# Altium integrated library Capacitor - Aluminium TH.IntLib: 4591 symbols (part 59 of 68)
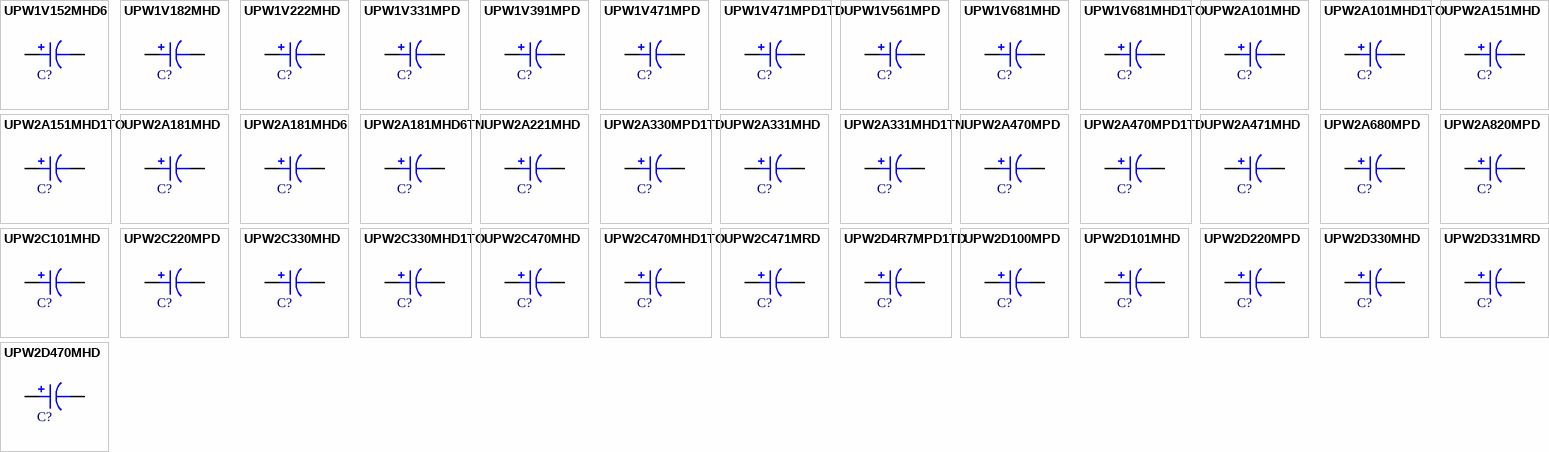
[diagram p172: symbols UPW1V152MHD6 to UPW2D470MHD]

## UPW2D330MHD
designator C?, comment 33uF  (value not drawn)
CAP ALUM 33UF 20% 200V RADIAL; Part Number: UPW2D330MHD; Manufacturer: Nichicon; TemperatureRange: -40C ~ 105C; Type: Polar; Ripple Current: 190mA @ 120Hz; Value: 33uF; PartId: 23553; Supplier 1: Digi-Key; Supplier Part Number 1: 493-2010-ND; ComponentLink1Description: Datasheet; ComponentLink1URL: http://nichicon-us.com/english/products/pdfs/e-upw.pdf; ComponentLink2Description: Digi-Key Listing; ComponentLink2URL: https://www.digikey.com/product-detail/en/nichicon/UPW2D330MHD/493-2010-ND/589751; Tolerance: 20%; Voltage: 200V; Price: 0.85; Device Package: Radial, Can, 12.5mm
footprint CAP AL TH D12.5 L5 H25
pins: 1, 2

## UPW2D331MRD
designator C?, comment 330uF  (value not drawn)
CAP ALUM 330UF 20% 200V RADIAL; Part Number: UPW2D331MRD; Manufacturer: Nichicon; TemperatureRange: -40C ~ 105C; Type: Polar; Ripple Current: 1.1A @ 120Hz; Value: 330uF; PartId: 27589; Supplier 1: Digi-Key; Supplier Part Number 1: 493-2015-ND; ComponentLink1Description: Datasheet; ComponentLink1URL: http://nichicon-us.com/english/products/pdfs/e-upw.pdf; ComponentLink2Description: Digi-Key Listing; ComponentLink2URL: https://www.digikey.com/product-detail/en/nichicon/UPW2D331MRD/493-2015-ND/589756; Tolerance: 20%; Voltage: 200V; Price: 3.11; Device Package: Radial, Can, 22mm
footprint CAP AL TH D22 L10 H43
pins: 1, 2

## UPW2D470MHD
designator C?, comment 47uF  (value not drawn)
CAP ALUM 47UF 20% 200V RADIAL; Part Number: UPW2D470MHD; Manufacturer: Nichicon; TemperatureRange: -40C ~ 105C; Type: Polar; Ripple Current: 220mA @ 120Hz; Value: 47uF; PartId: 23540; Supplier 1: Digi-Key; Supplier Part Number 1: 493-2011-ND; ComponentLink1Description: Datasheet; ComponentLink1URL: http://nichicon-us.com/english/products/pdfs/e-upw.pdf; ComponentLink2Description: Digi-Key Listing; ComponentLink2URL: https://www.digikey.com/product-detail/en/nichicon/UPW2D470MHD/493-2011-ND/589752; Tolerance: 20%; Voltage: 200V; Price: 0.8; Device Package: Radial, Can, 12.5mm
footprint CAP AL TH D12.5 L5 H25
pins: 1, 2

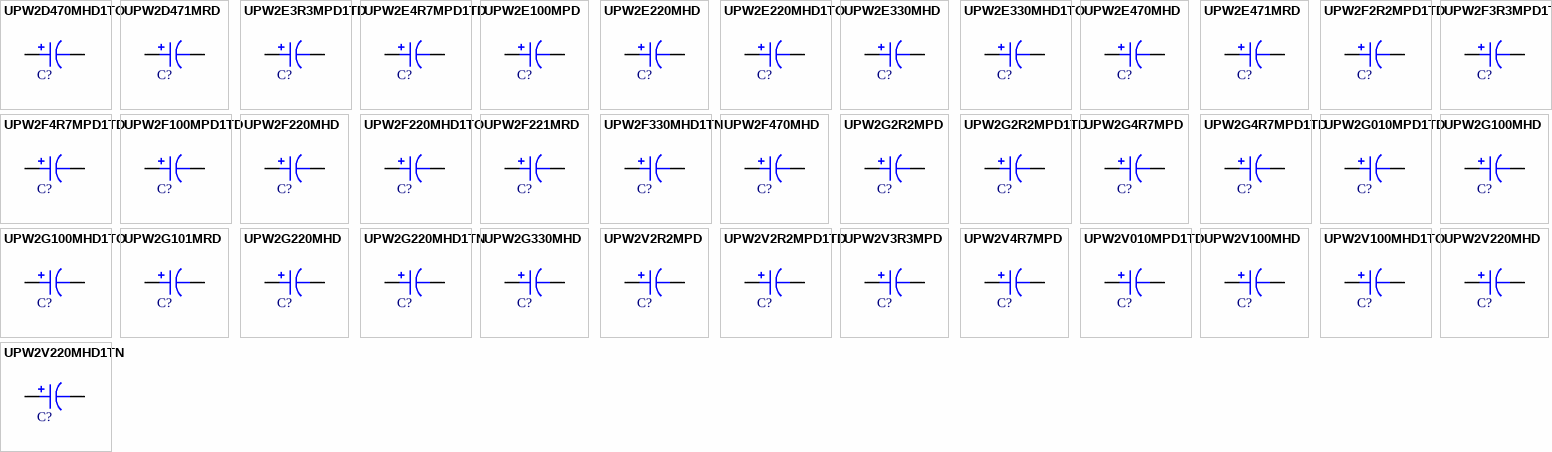
[diagram p98: symbols UPW2D470MHD1TO to UPW2V220MHD1TN]

## UPW2D470MHD1TO
designator C?, comment 47uF  (value not drawn)
CAP ALUM 47UF 20% 200V RADIAL; Part Number: UPW2D470MHD1TO; Manufacturer: Nichicon; TemperatureRange: -40C ~ 105C; Type: Polar; Ripple Current: 220mA @ 120Hz; Value: 47uF; PartId: 23907; Supplier 1: Digi-Key; Supplier Part Number 1: 493-12081-1-ND; ComponentLink1Description: Datasheet; ComponentLink1URL: http://nichicon-us.com/english/products/pdfs/e-upw.pdf; ComponentLink2Description: Digi-Key Listing; ComponentLink2URL: https://www.digikey.com/product-detail/en/nichicon/UPW2D470MHD1TO/493-12081-1-ND/4320104; Tolerance: 20%; Voltage: 200V; Price: 0.9; Device Package: Radial, Can, 12.5mm
footprint CAP AL TH D12.5 L5 H27
pins: 1, 2

## UPW2D471MRD
designator C?, comment 470uF  (value not drawn)
CAP ALUM 470UF 20% 200V RADIAL; Part Number: UPW2D471MRD; Manufacturer: Nichicon; TemperatureRange: -40C ~ 105C; Type: Polar; Ripple Current: 1.31A @ 120Hz; Value: 470uF; PartId: 27610; Supplier 1: Digi-Key; Supplier Part Number 1: 493-2016-ND; ComponentLink1Description: Datasheet; ComponentLink1URL: http://nichicon-us.com/english/products/pdfs/e-upw.pdf; ComponentLink2Description: Digi-Key Listing; ComponentLink2URL: https://www.digikey.com/product-detail/en/nichicon/UPW2D471MRD/493-2016-ND/589757; Tolerance: 20%; Voltage: 200V; Price: 3.85; Device Package: Radial, Can, 22mm
footprint CAP AL TH D22 L10 H53
pins: 1, 2

## UPW2E3R3MPD1TD
designator C?, comment 3.3uF  (value not drawn)
CAP ALUM 3.3UF 20% 250V RADIAL; Part Number: UPW2E3R3MPD1TD; Manufacturer: Nichicon; TemperatureRange: -40C ~ 105C; Type: Polar; Ripple Current: 42mA @ 120Hz; Value: 3.3uF; PartId: 24842; Supplier 1: Digi-Key; Supplier Part Number 1: 493-11767-1-ND; ComponentLink1Description: Datasheet; ComponentLink1URL: http://nichicon-us.com/english/products/pdfs/e-upw.pdf; ComponentLink2Description: Digi-Key Listing; ComponentLink2URL: https://www.digikey.com/product-detail/en/nichicon/UPW2E3R3MPD1TD/493-11767-1-ND/4320111; Tolerance: 20%; Voltage: 250V; Price: 0.46; Device Package: Radial, Can, 10mm
footprint CAP AL TH D10 L5 H14.5
pins: 1, 2

## UPW2E4R7MPD1TD
designator C?, comment 4.7uF  (value not drawn)
CAP ALUM 4.7UF 20% 250V RADIAL; Part Number: UPW2E4R7MPD1TD; Manufacturer: Nichicon; TemperatureRange: -40C ~ 105C; Type: Polar; Ripple Current: 50mA @ 120Hz; Value: 4.7uF; PartId: 24959; Supplier 1: Digi-Key; Supplier Part Number 1: 493-11828-1-ND; ComponentLink1Description: Datasheet; ComponentLink1URL: http://nichicon-us.com/english/products/pdfs/e-upw.pdf; ComponentLink2Description: Digi-Key Listing; ComponentLink2URL: https://www.digikey.com/product-detail/en/nichicon/UPW2E4R7MPD1TD/493-11828-1-ND/4320113; Tolerance: 20%; Voltage: 250V; Price: 0.52; Device Package: Radial, Can, 10mm
footprint CAP AL TH D10 L5 H14.5
pins: 1, 2

## UPW2E100MPD
designator C?, comment 10uF  (value not drawn)
CAP ALUM 10UF 20% 250V RADIAL; Part Number: UPW2E100MPD; Manufacturer: Nichicon; TemperatureRange: -40C ~ 105C; Type: Polar; Ripple Current: 88mA @ 120Hz; Value: 10uF; PartId: 25582; Supplier 1: Digi-Key; Supplier Part Number 1: 493-2022-ND; ComponentLink1Description: Datasheet; ComponentLink1URL: http://nichicon-us.com/english/products/pdfs/e-upw.pdf; ComponentLink2Description: Digi-Key Listing; ComponentLink2URL: https://www.digikey.com/product-detail/en/nichicon/UPW2E100MPD/493-2022-ND/589763; Tolerance: 20%; Voltage: 250V; Price: 0.67; Device Package: Radial, Can, 10mm
footprint CAP AL TH D10 L5 H22
pins: 1, 2

## UPW2E220MHD
designator C?, comment 22uF  (value not drawn)
CAP ALUM 22UF 20% 250V RADIAL; Part Number: UPW2E220MHD; Manufacturer: Nichicon; TemperatureRange: -40C ~ 105C; Type: Polar; Ripple Current: 155mA @ 120Hz; Value: 22uF; PartId: 23537; Supplier 1: Digi-Key; Supplier Part Number 1: 493-2023-ND; ComponentLink1Description: Datasheet; ComponentLink1URL: http://nichicon-us.com/english/products/pdfs/e-upw.pdf; ComponentLink2Description: Digi-Key Listing; ComponentLink2URL: https://www.digikey.com/product-detail/en/nichicon/UPW2E220MHD/493-2023-ND/589764; Tolerance: 20%; Voltage: 250V; Price: 0.73; Device Package: Radial, Can, 12.5mm
footprint CAP AL TH D12.5 L5 H25
pins: 1, 2

## UPW2E220MHD1TO
designator C?, comment 22uF  (value not drawn)
CAP ALUM 22UF 20% 250V RADIAL; Part Number: UPW2E220MHD1TO; Manufacturer: Nichicon; TemperatureRange: -40C ~ 105C; Type: Polar; Ripple Current: 155mA @ 120Hz; Value: 22uF; PartId: 23788; Supplier 1: Digi-Key; Supplier Part Number 1: 493-12019-3-ND; ComponentLink1Description: Datasheet; ComponentLink1URL: http://nichicon-us.com/english/products/pdfs/e-upw.pdf; ComponentLink2Description: Digi-Key Listing; ComponentLink2URL: https://www.digikey.com/product-detail/en/nichicon/UPW2E220MHD1TO/493-12019-3-ND/4321162; Tolerance: 20%; Voltage: 250V; Price: 0.2931; Device Package: Radial, Can, 12.5mm
footprint CAP AL TH D12.5 L5 H27
pins: 1, 2

## UPW2E330MHD
designator C?, comment 33uF  (value not drawn)
CAP ALUM 33UF 20% 250V RADIAL; Part Number: UPW2E330MHD; Manufacturer: Nichicon; TemperatureRange: -40C ~ 105C; Type: Polar; Ripple Current: 190mA @ 120Hz; Value: 33uF; PartId: 23552; Supplier 1: Digi-Key; Supplier Part Number 1: 493-2024-ND; ComponentLink1Description: Datasheet; ComponentLink1URL: http://nichicon-us.com/english/products/pdfs/e-upw.pdf; ComponentLink2Description: Digi-Key Listing; ComponentLink2URL: https://www.digikey.com/product-detail/en/nichicon/UPW2E330MHD/493-2024-ND/589765; Tolerance: 20%; Voltage: 250V; Price: 0.85; Device Package: Radial, Can, 12.5mm
footprint CAP AL TH D12.5 L5 H25
pins: 1, 2

## UPW2E330MHD1TO
designator C?, comment 33uF  (value not drawn)
CAP ALUM 33UF 20% 250V RADIAL; Part Number: UPW2E330MHD1TO; Manufacturer: Nichicon; TemperatureRange: -40C ~ 105C; Type: Polar; Ripple Current: 190mA @ 120Hz; Value: 33uF; PartId: 23890; Supplier 1: Digi-Key; Supplier Part Number 1: 493-12071-1-ND; ComponentLink1Description: Datasheet; ComponentLink1URL: http://nichicon-us.com/english/products/pdfs/e-upw.pdf; ComponentLink2Description: Digi-Key Listing; ComponentLink2URL: https://www.digikey.com/product-detail/en/nichicon/UPW2E330MHD1TO/493-12071-1-ND/4320110; Tolerance: 20%; Voltage: 250V; Price: 0.85; Device Package: Radial, Can, 12.5mm
footprint CAP AL TH D12.5 L5 H27
pins: 1, 2

## UPW2E470MHD
designator C?, comment 47uF  (value not drawn)
CAP ALUM 47UF 20% 250V RADIAL; Part Number: UPW2E470MHD; Manufacturer: Nichicon; TemperatureRange: -40C ~ 105C; Type: Polar; Ripple Current: 230mA @ 120Hz; Value: 47uF; PartId: 26575; Supplier 1: Digi-Key; Supplier Part Number 1: 493-2025-ND; ComponentLink1Description: Datasheet; ComponentLink1URL: http://nichicon-us.com/english/products/pdfs/e-upw.pdf; ComponentLink2Description: Digi-Key Listing; ComponentLink2URL: https://www.digikey.com/product-detail/en/nichicon/UPW2E470MHD/493-2025-ND/589766; Tolerance: 20%; Voltage: 250V; Price: 1.2; Device Package: Radial, Can, 16mm
footprint CAP AL TH D16 L7.5 H26.5
pins: 1, 2

## UPW2E471MRD
designator C?, comment 470uF  (value not drawn)
CAP ALUM 470UF 20% 250V RADIAL; Part Number: UPW2E471MRD; Manufacturer: Nichicon; TemperatureRange: -40C ~ 105C; Type: Polar; Ripple Current: 1.35A @ 120Hz; Value: 470uF; PartId: 27515; Supplier 1: Digi-Key; Supplier Part Number 1: 493-2030-ND; ComponentLink1Description: Datasheet; ComponentLink1URL: http://nichicon-us.com/english/products/pdfs/e-upw.pdf; ComponentLink2Description: Digi-Key Listing; ComponentLink2URL: https://www.digikey.com/product-detail/en/nichicon/UPW2E471MRD/493-2030-ND/589771; Tolerance: 20%; Voltage: 250V; Price: 4.4; Device Package: Radial, Can, 25mm
footprint CAP AL TH D25 L12.5 H52
pins: 1, 2

## UPW2F2R2MPD1TD
designator C?, comment 2.2uF  (value not drawn)
CAP ALUM 2.2UF 20% 315V RADIAL; Part Number: UPW2F2R2MPD1TD; Manufacturer: Nichicon; TemperatureRange: -40C ~ 105C; Type: Polar; Ripple Current: 28mA @ 120Hz; Value: 2.2uF; PartId: 24527; Supplier 1: Digi-Key; Supplier Part Number 1: 493-4725-3-ND; ComponentLink1Description: Datasheet; ComponentLink1URL: http://nichicon-us.com/english/products/pdfs/e-upw.pdf; ComponentLink2Description: Digi-Key Listing; ComponentLink2URL: https://www.digikey.com/product-detail/en/nichicon/UPW2F2R2MPD1TD/493-4725-3-ND/3125523; Tolerance: 20%; Voltage: 315V; Price: 0.1426; Device Package: Radial, Can, 10mm
footprint CAP AL TH D10 L5 H14.5
pins: 1, 2

## UPW2F3R3MPD1TD
designator C?, comment 3.3uF  (value not drawn)
CAP ALUM 3.3UF 20% 315V RADIAL; Part Number: UPW2F3R3MPD1TD; Manufacturer: Nichicon; TemperatureRange: -40C ~ 105C; Type: Polar; Ripple Current: 34mA @ 120Hz; Value: 3.3uF; PartId: 24916; Supplier 1: Digi-Key; Supplier Part Number 1: 493-11802-1-ND; ComponentLink1Description: Datasheet; ComponentLink1URL: http://nichicon-us.com/english/products/pdfs/e-upw.pdf; ComponentLink2Description: Digi-Key Listing; ComponentLink2URL: https://www.digikey.com/product-detail/en/nichicon/UPW2F3R3MPD1TD/493-11802-1-ND/4320118; Tolerance: 20%; Voltage: 315V; Price: 0.49; Device Package: Radial, Can, 10mm
footprint CAP AL TH D10 L5 H14.5
pins: 1, 2

## UPW2F4R7MPD1TD
designator C?, comment 4.7uF  (value not drawn)
CAP ALUM 4.7UF 20% 315V RADIAL; Part Number: UPW2F4R7MPD1TD; Manufacturer: Nichicon; TemperatureRange: -40C ~ 105C; Type: Polar; Ripple Current: 45mA @ 120Hz; Value: 4.7uF; PartId: 25046; Supplier 1: Digi-Key; Supplier Part Number 1: 493-4727-3-ND; ComponentLink1Description: Datasheet; ComponentLink1URL: http://nichicon-us.com/english/products/pdfs/e-upw.pdf; ComponentLink2Description: Digi-Key Listing; ComponentLink2URL: https://www.digikey.com/product-detail/en/nichicon/UPW2F4R7MPD1TD/493-4727-3-ND/3125525; Tolerance: 20%; Voltage: 315V; Price: 0.1954; Device Package: Radial, Can, 10mm
footprint CAP AL TH D10 L5 H17.5
pins: 1, 2

## UPW2F100MPD1TD
designator C?, comment 10uF  (value not drawn)
CAP ALUM 10UF 20% 315V RADIAL; Part Number: UPW2F100MPD1TD; Manufacturer: Nichicon; TemperatureRange: -40C ~ 105C; Type: Polar; Ripple Current: 72mA @ 120Hz; Value: 10uF; PartId: 25775; Supplier 1: Digi-Key; Supplier Part Number 1: 493-11965-3-ND; ComponentLink1Description: Datasheet; ComponentLink1URL: http://nichicon-us.com/english/products/pdfs/e-upw.pdf; ComponentLink2Description: Digi-Key Listing; ComponentLink2URL: https://www.digikey.com/product-detail/en/nichicon/UPW2F100MPD1TD/493-11965-3-ND/4321108; Tolerance: 20%; Voltage: 315V; Price: 0.242; Device Package: Radial, Can, 10mm
footprint CAP AL TH D10 L5 H22
pins: 1, 2

## UPW2F220MHD
designator C?, comment 22uF  (value not drawn)
CAP ALUM 22UF 20% 315V RADIAL; Part Number: UPW2F220MHD; Manufacturer: Nichicon; TemperatureRange: -40C ~ 105C; Type: Polar; Ripple Current: 120mA @ 120Hz; Value: 22uF; PartId: 23547; Supplier 1: Digi-Key; Supplier Part Number 1: 493-2037-ND; ComponentLink1Description: Datasheet; ComponentLink1URL: http://nichicon-us.com/english/products/pdfs/e-upw.pdf; ComponentLink2Description: Digi-Key Listing; ComponentLink2URL: https://www.digikey.com/product-detail/en/nichicon/UPW2F220MHD/493-2037-ND/589778; Tolerance: 20%; Voltage: 315V; Price: 0.83; Device Package: Radial, Can, 12.5mm
footprint CAP AL TH D12.5 L5 H25
pins: 1, 2

## UPW2F220MHD1TO
designator C?, comment 22uF  (value not drawn)
CAP ALUM 22UF 20% 315V RADIAL; Part Number: UPW2F220MHD1TO; Manufacturer: Nichicon; TemperatureRange: -40C ~ 105C; Type: Polar; Ripple Current: 120mA @ 120Hz; Value: 22uF; PartId: 23883; Supplier 1: Digi-Key; Supplier Part Number 1: 493-12062-1-ND; ComponentLink1Description: Datasheet; ComponentLink1URL: http://nichicon-us.com/english/products/pdfs/e-upw.pdf; ComponentLink2Description: Digi-Key Listing; ComponentLink2URL: https://www.digikey.com/product-detail/en/nichicon/UPW2F220MHD1TO/493-12062-1-ND/4320117; Tolerance: 20%; Voltage: 315V; Price: 0.83; Device Package: Radial, Can, 12.5mm
footprint CAP AL TH D12.5 L5 H27
pins: 1, 2

## UPW2F221MRD
designator C?, comment 220uF  (value not drawn)
CAP ALUM 220UF 20% 315V RADIAL; Part Number: UPW2F221MRD; Manufacturer: Nichicon; TemperatureRange: -40C ~ 105C; Type: Polar; Ripple Current: 540mA @ 120Hz; Value: 220uF; PartId: 27648; Supplier 1: Digi-Key; Supplier Part Number 1: 493-2042-ND; ComponentLink1Description: Datasheet; ComponentLink1URL: http://nichicon-us.com/english/products/pdfs/e-upw.pdf; ComponentLink2Description: Digi-Key Listing; ComponentLink2URL: https://www.digikey.com/product-detail/en/nichicon/UPW2F221MRD/493-2042-ND/589783; Tolerance: 20%; Voltage: 315V; Price: 4.25; Device Package: Radial, Can, 22mm
footprint CAP AL TH D22 L10 H53
pins: 1, 2

## UPW2F330MHD1TN
designator C?, comment 33uF  (value not drawn)
CAP ALUM 33UF 20% 315V RADIAL; Part Number: UPW2F330MHD1TN; Manufacturer: Nichicon; TemperatureRange: -40C ~ 105C; Type: Polar; Ripple Current: 155mA @ 120Hz; Value: 33uF; PartId: 26769; Supplier 1: Digi-Key; Supplier Part Number 1: 493-4726-3-ND; ComponentLink1Description: Datasheet; ComponentLink1URL: http://nichicon-us.com/english/products/pdfs/e-upw.pdf; ComponentLink2Description: Digi-Key Listing; ComponentLink2URL: https://www.digikey.com/product-detail/en/nichicon/UPW2F330MHD1TN/493-4726-3-ND/3125524; Tolerance: 20%; Voltage: 315V; Price: 0.614; Device Package: Radial, Can, 16mm
footprint CAP AL TH D16 L7.5 H27
pins: 1, 2

## UPW2F470MHD
designator C?, comment 47uF  (value not drawn)
CAP ALUM 47UF 20% 315V RADIAL; Part Number: UPW2F470MHD; Manufacturer: Nichicon; TemperatureRange: -40C ~ 105C; Type: Polar; Ripple Current: 190mA @ 120Hz; Value: 47uF; PartId: 27330; Supplier 1: Digi-Key; Supplier Part Number 1: 493-2039-ND; ComponentLink1Description: Datasheet; ComponentLink1URL: http://nichicon-us.com/english/products/pdfs/e-upw.pdf; ComponentLink2Description: Digi-Key Listing; ComponentLink2URL: https://www.digikey.com/product-detail/en/nichicon/UPW2F470MHD/493-2039-ND/589780; Tolerance: 20%; Voltage: 315V; Price: 1.61; Device Package: Radial, Can, 16mm
footprint CAP AL TH D16 L7.5 H37
pins: 1, 2

## UPW2G2R2MPD
designator C?, comment 2.2uF  (value not drawn)
CAP ALUM 2.2UF 20% 400V RADIAL; Part Number: UPW2G2R2MPD; Manufacturer: Nichicon; TemperatureRange: -40C ~ 105C; Type: Polar; Ripple Current: 27mA @ 120Hz; Value: 2.2uF; PartId: 25221; Supplier 1: Digi-Key; Supplier Part Number 1: 493-2056-ND; ComponentLink1Description: Datasheet; ComponentLink1URL: http://nichicon-us.com/english/products/pdfs/e-upw.pdf; ComponentLink2Description: Digi-Key Listing; ComponentLink2URL: https://www.digikey.com/product-detail/en/nichicon/UPW2G2R2MPD/493-2056-ND/589797; Tolerance: 20%; Voltage: 400V; Price: 0.54; Device Package: Radial, Can, 10mm
footprint CAP AL TH D10 L5 H17.5
pins: 1, 2

## UPW2G2R2MPD1TD
designator C?, comment 2.2uF  (value not drawn)
CAP ALUM 2.2UF 20% 400V RADIAL; Part Number: UPW2G2R2MPD1TD; Manufacturer: Nichicon; TemperatureRange: -40C ~ 105C; Type: Polar; Ripple Current: 27mA @ 120Hz; Value: 2.2uF; PartId: 25038; Supplier 1: Digi-Key; Supplier Part Number 1: 493-11886-3-ND; ComponentLink1Description: Datasheet; ComponentLink1URL: http://nichicon-us.com/english/products/pdfs/e-upw.pdf; ComponentLink2Description: Digi-Key Listing; ComponentLink2URL: https://www.digikey.com/product-detail/en/nichicon/UPW2G2R2MPD1TD/493-11886-3-ND/4321029; Tolerance: 20%; Voltage: 400V; Price: 0.1854; Device Package: Radial, Can, 10mm
footprint CAP AL TH D10 L5 H17.5
pins: 1, 2

## UPW2G4R7MPD
designator C?, comment 4.7uF  (value not drawn)
CAP ALUM 4.7UF 20% 400V RADIAL; Part Number: UPW2G4R7MPD; Manufacturer: Nichicon; TemperatureRange: -40C ~ 105C; Type: Polar; Ripple Current: 43mA @ 120Hz; Value: 4.7uF; PartId: 25583; Supplier 1: Digi-Key; Supplier Part Number 1: 493-2058-ND; ComponentLink1Description: Datasheet; ComponentLink1URL: http://nichicon-us.com/english/products/pdfs/e-upw.pdf; ComponentLink2Description: Digi-Key Listing; ComponentLink2URL: https://www.digikey.com/product-detail/en/nichicon/UPW2G4R7MPD/493-2058-ND/589799; Tolerance: 20%; Voltage: 400V; Price: 0.67; Device Package: Radial, Can, 10mm
footprint CAP AL TH D10 L5 H22
pins: 1, 2

## UPW2G4R7MPD1TD
designator C?, comment 4.7uF  (value not drawn)
CAP ALUM 4.7UF 20% 400V RADIAL; Part Number: UPW2G4R7MPD1TD; Manufacturer: Nichicon; TemperatureRange: -40C ~ 105C; Type: Polar; Ripple Current: 43mA @ 120Hz; Value: 4.7uF; PartId: 25793; Supplier 1: Digi-Key; Supplier Part Number 1: 493-11999-3-ND; ComponentLink1Description: Datasheet; ComponentLink1URL: http://nichicon-us.com/english/products/pdfs/e-upw.pdf; ComponentLink2Description: Digi-Key Listing; ComponentLink2URL: https://www.digikey.com/product-detail/en/nichicon/UPW2G4R7MPD1TD/493-11999-3-ND/4321142; Tolerance: 20%; Voltage: 400V; Price: 0.2694; Device Package: Radial, Can, 10mm
footprint CAP AL TH D10 L5 H22
pins: 1, 2

## UPW2G010MPD1TD
designator C?, comment 1uF  (value not drawn)
CAP ALUM 1UF 20% 400V RADIAL; Part Number: UPW2G010MPD1TD; Manufacturer: Nichicon; TemperatureRange: -40C ~ 105C; Type: Polar; Ripple Current: 16mA @ 120Hz; Value: 1uF; PartId: 24945; Supplier 1: Digi-Key; Supplier Part Number 1: 493-11813-1-ND; ComponentLink1Description: Datasheet; ComponentLink1URL: http://nichicon-us.com/english/products/pdfs/e-upw.pdf; ComponentLink2Description: Digi-Key Listing; ComponentLink2URL: https://www.digikey.com/product-detail/en/nichicon/UPW2G010MPD1TD/493-11813-1-ND/4320119; Tolerance: 20%; Voltage: 400V; Price: 0.51; Device Package: Radial, Can, 10mm
footprint CAP AL TH D10 L5 H14.5
pins: 1, 2

## UPW2G100MHD
designator C?, comment 10uF  (value not drawn)
CAP ALUM 10UF 20% 400V RADIAL; Part Number: UPW2G100MHD; Manufacturer: Nichicon; TemperatureRange: -40C ~ 105C; Type: Polar; Ripple Current: 72mA @ 120Hz; Value: 10uF; PartId: 23541; Supplier 1: Digi-Key; Supplier Part Number 1: 493-2059-ND; ComponentLink1Description: Datasheet; ComponentLink1URL: http://nichicon-us.com/english/products/pdfs/e-upw.pdf; ComponentLink2Description: Digi-Key Listing; ComponentLink2URL: https://www.digikey.com/product-detail/en/nichicon/UPW2G100MHD/493-2059-ND/589800; Tolerance: 20%; Voltage: 400V; Price: 0.8; Device Package: Radial, Can, 12.5mm
footprint CAP AL TH D12.5 L5 H25
pins: 1, 2

## UPW2G100MHD1TO
designator C?, comment 10uF  (value not drawn)
CAP ALUM 10UF 20% 400V RADIAL; Part Number: UPW2G100MHD1TO; Manufacturer: Nichicon; TemperatureRange: -40C ~ 105C; Type: Polar; Ripple Current: 72mA @ 120Hz; Value: 10uF; PartId: 23798; Supplier 1: Digi-Key; Supplier Part Number 1: 493-12079-3-ND; ComponentLink1Description: Datasheet; ComponentLink1URL: http://nichicon-us.com/english/products/pdfs/e-upw.pdf; ComponentLink2Description: Digi-Key Listing; ComponentLink2URL: https://www.digikey.com/product-detail/en/nichicon/UPW2G100MHD1TO/493-12079-3-ND/4321222; Tolerance: 20%; Voltage: 400V; Price: 0.3353; Device Package: Radial, Can, 12.5mm
footprint CAP AL TH D12.5 L5 H27
pins: 1, 2

## UPW2G101MRD
designator C?, comment 100uF  (value not drawn)
CAP ALUM 100UF 20% 400V RADIAL; Part Number: UPW2G101MRD; Manufacturer: Nichicon; TemperatureRange: -40C ~ 105C; Type: Polar; Ripple Current: 350mA @ 120Hz; Value: 100uF; PartId: 27668; Supplier 1: Digi-Key; Supplier Part Number 1: 493-2064-ND; ComponentLink1Description: Datasheet; ComponentLink1URL: http://nichicon-us.com/english/products/pdfs/e-upw.pdf; ComponentLink2Description: Digi-Key Listing; ComponentLink2URL: https://www.digikey.com/product-detail/en/nichicon/UPW2G101MRD/493-2064-ND/589805; Tolerance: 20%; Voltage: 400V; Price: 4.36; Device Package: Radial, Can, 22mm
footprint CAP AL TH D22 L10 H53
pins: 1, 2

## UPW2G220MHD
designator C?, comment 22uF  (value not drawn)
CAP ALUM 22UF 20% 400V RADIAL; Part Number: UPW2G220MHD; Manufacturer: Nichicon; TemperatureRange: -40C ~ 105C; Type: Polar; Ripple Current: 110mA @ 120Hz; Value: 22uF; PartId: 26561; Supplier 1: Digi-Key; Supplier Part Number 1: 493-2060-ND; ComponentLink1Description: Datasheet; ComponentLink1URL: http://nichicon-us.com/english/products/pdfs/e-upw.pdf; ComponentLink2Description: Digi-Key Listing; ComponentLink2URL: https://www.digikey.com/product-detail/en/nichicon/UPW2G220MHD/493-2060-ND/589801; Tolerance: 20%; Voltage: 400V; Price: 1.1; Device Package: Radial, Can, 16mm
footprint CAP AL TH D16 L7.5 H26.5
pins: 1, 2

## UPW2G220MHD1TN
designator C?, comment 22uF  (value not drawn)
CAP ALUM 22UF 20% 400V RADIAL; Part Number: UPW2G220MHD1TN; Manufacturer: Nichicon; TemperatureRange: -40C ~ 105C; Type: Polar; Ripple Current: 110mA @ 120Hz; Value: 22uF; PartId: 26757; Supplier 1: Digi-Key; Supplier Part Number 1: 493-12243-3-ND; ComponentLink1Description: Datasheet; ComponentLink1URL: http://nichicon-us.com/english/products/pdfs/e-upw.pdf; ComponentLink2Description: Digi-Key Listing; ComponentLink2URL: https://www.digikey.com/product-detail/en/nichicon/UPW2G220MHD1TN/493-12243-3-ND/4321386; Tolerance: 20%; Voltage: 400V; Price: 0.5784; Device Package: Radial, Can, 16mm
footprint CAP AL TH D16 L7.5 H27
pins: 1, 2

## UPW2G330MHD
designator C?, comment 33uF  (value not drawn)
CAP ALUM 33UF 20% 400V RADIAL; Part Number: UPW2G330MHD; Manufacturer: Nichicon; TemperatureRange: -40C ~ 105C; Type: Polar; Ripple Current: 140mA @ 120Hz; Value: 33uF; PartId: 27060; Supplier 1: Digi-Key; Supplier Part Number 1: 493-2061-ND; ComponentLink1Description: Datasheet; ComponentLink1URL: http://nichicon-us.com/english/products/pdfs/e-upw.pdf; ComponentLink2Description: Digi-Key Listing; ComponentLink2URL: https://www.digikey.com/product-detail/en/nichicon/UPW2G330MHD/493-2061-ND/589802; Tolerance: 20%; Voltage: 400V; Price: 1.59; Device Package: Radial, Can, 16mm
footprint CAP AL TH D16 L7.5 H33.5
pins: 1, 2

## UPW2V2R2MPD
designator C?, comment 2.2uF  (value not drawn)
CAP ALUM 2.2UF 20% 350V RADIAL; Part Number: UPW2V2R2MPD; Manufacturer: Nichicon; TemperatureRange: -40C ~ 105C; Type: Polar; Ripple Current: 31mA @ 120Hz; Value: 2.2uF; PartId: 25163; Supplier 1: Digi-Key; Supplier Part Number 1: 493-2045-ND; ComponentLink1Description: Datasheet; ComponentLink1URL: http://nichicon-us.com/english/products/pdfs/e-upw.pdf; ComponentLink2Description: Digi-Key Listing; ComponentLink2URL: https://www.digikey.com/product-detail/en/nichicon/UPW2V2R2MPD/493-2045-ND/589786; Tolerance: 20%; Voltage: 350V; Price: 0.44; Device Package: Radial, Can, 10mm
footprint CAP AL TH D10 L5 H17.5
pins: 1, 2

## UPW2V2R2MPD1TD
designator C?, comment 2.2uF  (value not drawn)
CAP ALUM 2.2UF 20% 350V RADIAL; Part Number: UPW2V2R2MPD1TD; Manufacturer: Nichicon; TemperatureRange: -40C ~ 105C; Type: Polar; Ripple Current: 31mA @ 120Hz; Value: 2.2uF; PartId: 25006; Supplier 1: Digi-Key; Supplier Part Number 1: 493-11808-3-ND; ComponentLink1Description: Datasheet; ComponentLink1URL: http://nichicon-us.com/english/products/pdfs/e-upw.pdf; ComponentLink2Description: Digi-Key Listing; ComponentLink2URL: https://www.digikey.com/product-detail/en/nichicon/UPW2V2R2MPD1TD/493-11808-3-ND/4320951; Tolerance: 20%; Voltage: 350V; Price: 0.1534; Device Package: Radial, Can, 10mm
footprint CAP AL TH D10 L5 H17.5
pins: 1, 2

## UPW2V3R3MPD
designator C?, comment 3.3uF  (value not drawn)
CAP ALUM 3.3UF 20% 350V RADIAL; Part Number: UPW2V3R3MPD; Manufacturer: Nichicon; TemperatureRange: -40C ~ 105C; Type: Polar; Ripple Current: 38mA @ 120Hz; Value: 3.3uF; PartId: 25220; Supplier 1: Digi-Key; Supplier Part Number 1: 493-2046-ND; ComponentLink1Description: Datasheet; ComponentLink1URL: http://nichicon-us.com/english/products/pdfs/e-upw.pdf; ComponentLink2Description: Digi-Key Listing; ComponentLink2URL: https://www.digikey.com/product-detail/en/nichicon/UPW2V3R3MPD/493-2046-ND/589787; Tolerance: 20%; Voltage: 350V; Price: 0.53; Device Package: Radial, Can, 10mm
footprint CAP AL TH D10 L5 H17.5
pins: 1, 2

## UPW2V4R7MPD
designator C?, comment 4.7uF  (value not drawn)
CAP ALUM 4.7UF 20% 350V RADIAL; Part Number: UPW2V4R7MPD; Manufacturer: Nichicon; TemperatureRange: -40C ~ 105C; Type: Polar; Ripple Current: 49mA @ 120Hz; Value: 4.7uF; PartId: 25555; Supplier 1: Digi-Key; Supplier Part Number 1: 493-2047-ND; ComponentLink1Description: Datasheet; ComponentLink1URL: http://nichicon-us.com/english/products/pdfs/e-upw.pdf; ComponentLink2Description: Digi-Key Listing; ComponentLink2URL: https://www.digikey.com/product-detail/en/nichicon/UPW2V4R7MPD/493-2047-ND/589788; Tolerance: 20%; Voltage: 350V; Price: 0.64; Device Package: Radial, Can, 10mm
footprint CAP AL TH D10 L5 H22
pins: 1, 2

## UPW2V010MPD1TD
designator C?, comment 1uF  (value not drawn)
CAP ALUM 1UF 20% 350V RADIAL; Part Number: UPW2V010MPD1TD; Manufacturer: Nichicon; TemperatureRange: -40C ~ 105C; Type: Polar; Ripple Current: 17mA @ 120Hz; Value: 1uF; PartId: 24840; Supplier 1: Digi-Key; Supplier Part Number 1: 493-11768-1-ND; ComponentLink1Description: Datasheet; ComponentLink1URL: http://nichicon-us.com/english/products/pdfs/e-upw.pdf; ComponentLink2Description: Digi-Key Listing; ComponentLink2URL: https://www.digikey.com/product-detail/en/nichicon/UPW2V010MPD1TD/493-11768-1-ND/4320125; Tolerance: 20%; Voltage: 350V; Price: 0.46; Device Package: Radial, Can, 10mm
footprint CAP AL TH D10 L5 H14.5
pins: 1, 2

## UPW2V100MHD
designator C?, comment 10uF  (value not drawn)
CAP ALUM 10UF 20% 350V RADIAL; Part Number: UPW2V100MHD; Manufacturer: Nichicon; TemperatureRange: -40C ~ 105C; Type: Polar; Ripple Current: 82mA @ 120Hz; Value: 10uF; PartId: 22866; Supplier 1: Digi-Key; Supplier Part Number 1: 493-2048-ND; ComponentLink1Description: Datasheet; ComponentLink1URL: http://nichicon-us.com/english/products/pdfs/e-upw.pdf; ComponentLink2Description: Digi-Key Listing; ComponentLink2URL: https://www.digikey.com/product-detail/en/nichicon/UPW2V100MHD/493-2048-ND/589789; Tolerance: 20%; Voltage: 350V; Price: 0; Device Package: Radial, Can, 12.5mm
footprint CAP AL TH D12.5 L5 H20
pins: 1, 2

## UPW2V100MHD1TO
designator C?, comment 10uF  (value not drawn)
CAP ALUM 10UF 20% 350V RADIAL; Part Number: UPW2V100MHD1TO; Manufacturer: Nichicon; TemperatureRange: -40C ~ 105C; Type: Polar; Ripple Current: 82mA @ 120Hz; Value: 10uF; PartId: 23305; Supplier 1: Digi-Key; Supplier Part Number 1: 493-12018-1-ND; ComponentLink1Description: Datasheet; ComponentLink1URL: http://nichicon-us.com/english/products/pdfs/e-upw.pdf; ComponentLink2Description: Digi-Key Listing; ComponentLink2URL: https://www.digikey.com/product-detail/en/nichicon/UPW2V100MHD1TO/493-12018-1-ND/4320126; Tolerance: 20%; Voltage: 350V; Price: 0.81; Device Package: Radial, Can, 12.5mm
footprint CAP AL TH D12.5 L5 H22
pins: 1, 2

## UPW2V220MHD
designator C?, comment 22uF  (value not drawn)
CAP ALUM 22UF 20% 350V RADIAL; Part Number: UPW2V220MHD; Manufacturer: Nichicon; TemperatureRange: -40C ~ 105C; Type: Polar; Ripple Current: 130mA @ 120Hz; Value: 22uF; PartId: 26553; Supplier 1: Digi-Key; Supplier Part Number 1: 493-2049-ND; ComponentLink1Description: Datasheet; ComponentLink1URL: http://nichicon-us.com/english/products/pdfs/e-upw.pdf; ComponentLink2Description: Digi-Key Listing; ComponentLink2URL: https://www.digikey.com/product-detail/en/nichicon/UPW2V220MHD/493-2049-ND/589790; Tolerance: 20%; Voltage: 350V; Price: 1.06; Device Package: Radial, Can, 16mm
footprint CAP AL TH D16 L7.5 H26.5
pins: 1, 2

## UPW2V220MHD1TN
designator C?, comment 22uF  (value not drawn)
CAP ALUM 22UF 20% 350V RADIAL; Part Number: UPW2V220MHD1TN; Manufacturer: Nichicon; TemperatureRange: -40C ~ 105C; Type: Polar; Ripple Current: 130mA @ 120Hz; Value: 22uF; PartId: 26748; Supplier 1: Digi-Key; Supplier Part Number 1: 493-12177-3-ND; ComponentLink1Description: Datasheet; ComponentLink1URL: http://nichicon-us.com/english/products/pdfs/e-upw.pdf; ComponentLink2Description: Digi-Key Listing; ComponentLink2URL: https://www.digikey.com/product-detail/en/nichicon/UPW2V220MHD1TN/493-12177-3-ND/4321320; Tolerance: 20%; Voltage: 350V; Price: 0.5187; Device Package: Radial, Can, 16mm
footprint CAP AL TH D16 L7.5 H27
pins: 1, 2

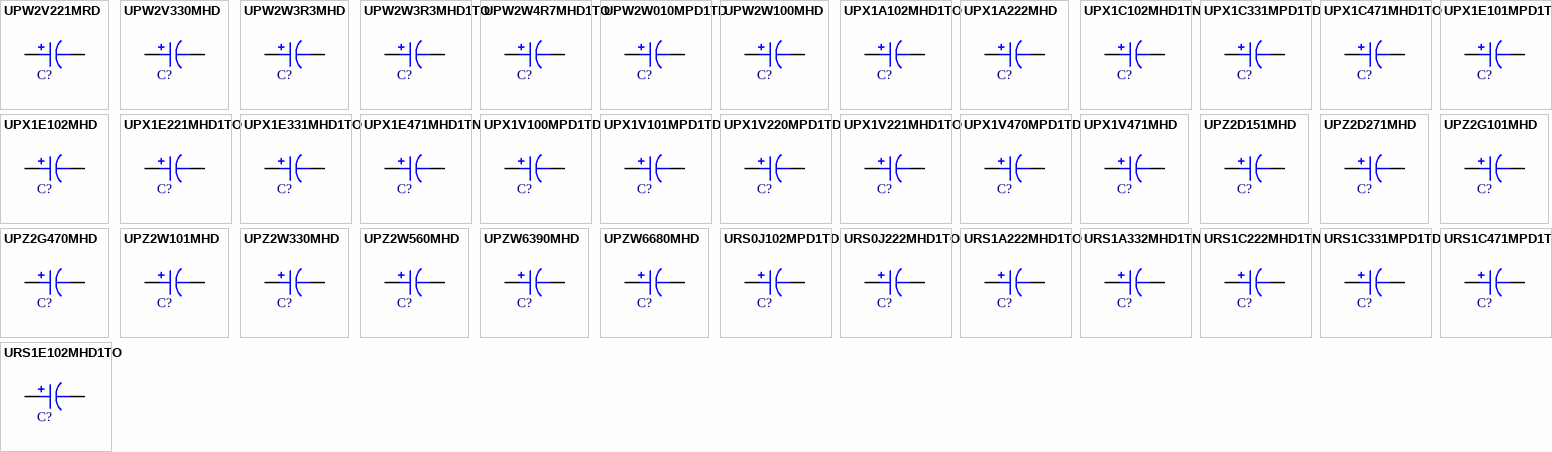
[diagram p99: symbols UPW2V221MRD to URS1E102MHD1TO]

## UPW2V221MRD
designator C?, comment 220uF  (value not drawn)
CAP ALUM 220UF 20% 350V RADIAL; Part Number: UPW2V221MRD; Manufacturer: Nichicon; TemperatureRange: -40C ~ 105C; Type: Polar; Ripple Current: 550mA @ 120Hz; Value: 220uF; PartId: 27519; Supplier 1: Digi-Key; Supplier Part Number 1: 493-2054-ND; ComponentLink1Description: Datasheet; ComponentLink1URL: http://nichicon-us.com/english/products/pdfs/e-upw.pdf; ComponentLink2Description: Digi-Key Listing; ComponentLink2URL: https://www.digikey.com/product-detail/en/nichicon/UPW2V221MRD/493-2054-ND/589795; Tolerance: 20%; Voltage: 350V; Price: 4.64; Device Package: Radial, Can, 25mm
footprint CAP AL TH D25 L12.5 H52
pins: 1, 2

## UPW2V330MHD
designator C?, comment 33uF  (value not drawn)
CAP ALUM 33UF 20% 350V RADIAL; Part Number: UPW2V330MHD; Manufacturer: Nichicon; TemperatureRange: -40C ~ 105C; Type: Polar; Ripple Current: 160mA @ 120Hz; Value: 33uF; PartId: 27102; Supplier 1: Digi-Key; Supplier Part Number 1: 493-2050-ND; ComponentLink1Description: Datasheet; ComponentLink1URL: http://nichicon-us.com/english/products/pdfs/e-upw.pdf; ComponentLink2Description: Digi-Key Listing; ComponentLink2URL: https://www.digikey.com/product-detail/en/nichicon/UPW2V330MHD/493-2050-ND/589791; Tolerance: 20%; Voltage: 350V; Price: 1.74; Device Package: Radial, Can, 16mm
footprint CAP AL TH D16 L7.5 H33.5
pins: 1, 2

## UPW2W3R3MHD
designator C?, comment 3.3uF  (value not drawn)
CAP ALUM 3.3UF 20% 450V RADIAL; Part Number: UPW2W3R3MHD; Manufacturer: Nichicon; TemperatureRange: -25C ~ 105C; Type: Polar; Ripple Current: 41mA @ 120Hz; Value: 3.3uF; PartId: 22853; Supplier 1: Digi-Key; Supplier Part Number 1: 493-2067-ND; ComponentLink1Description: Datasheet; ComponentLink1URL: http://nichicon-us.com/english/products/pdfs/e-upw.pdf; ComponentLink2Description: Digi-Key Listing; ComponentLink2URL: https://www.digikey.com/product-detail/en/nichicon/UPW2W3R3MHD/493-2067-ND/589808; Tolerance: 20%; Voltage: 450V; Price: 0; Device Package: Radial, Can, 12.5mm
footprint CAP AL TH D12.5 L5 H20
pins: 1, 2

## UPW2W3R3MHD1TO
designator C?, comment 3.3uF  (value not drawn)
CAP ALUM 3.3UF 20% 450V RADIAL; Part Number: UPW2W3R3MHD1TO; Manufacturer: Nichicon; TemperatureRange: -25C ~ 105C; Type: Polar; Ripple Current: 41mA @ 120Hz; Value: 3.3uF; PartId: 23273; Supplier 1: Digi-Key; Supplier Part Number 1: 493-12000-1-ND; ComponentLink1Description: Datasheet; ComponentLink1URL: http://nichicon-us.com/english/products/pdfs/e-upw.pdf; ComponentLink2Description: Digi-Key Listing; ComponentLink2URL: https://www.digikey.com/product-detail/en/nichicon/UPW2W3R3MHD1TO/493-12000-1-ND/4320135; Tolerance: 20%; Voltage: 450V; Price: 0.75; Device Package: Radial, Can, 12.5mm
footprint CAP AL TH D12.5 L5 H22
pins: 1, 2

## UPW2W4R7MHD1TO
designator C?, comment 4.7uF  (value not drawn)
CAP ALUM 4.7UF 20% 450V RADIAL; Part Number: UPW2W4R7MHD1TO; Manufacturer: Nichicon; TemperatureRange: -25C ~ 105C; Type: Polar; Ripple Current: 49mA @ 120Hz; Value: 4.7uF; PartId: 23154; Supplier 1: Digi-Key; Supplier Part Number 1: 493-12034-3-ND; ComponentLink1Description: Datasheet; ComponentLink1URL: http://nichicon-us.com/english/products/pdfs/e-upw.pdf; ComponentLink2Description: Digi-Key Listing; ComponentLink2URL: https://www.digikey.com/product-detail/en/nichicon/UPW2W4R7MHD1TO/493-12034-3-ND/4321177; Tolerance: 20%; Voltage: 450V; Price: 0.3024; Device Package: Radial, Can, 12.5mm
footprint CAP AL TH D12.5 L5 H22
pins: 1, 2

## UPW2W010MPD1TD
designator C?, comment 1uF  (value not drawn)
CAP ALUM 1UF 20% 450V RADIAL; Part Number: UPW2W010MPD1TD; Manufacturer: Nichicon; TemperatureRange: -25C ~ 105C; Type: Polar; Ripple Current: 18mA @ 120Hz; Value: 1uF; PartId: 24957; Supplier 1: Digi-Key; Supplier Part Number 1: 493-11823-1-ND; ComponentLink1Description: Datasheet; ComponentLink1URL: http://nichicon-us.com/english/products/pdfs/e-upw.pdf; ComponentLink2Description: Digi-Key Listing; ComponentLink2URL: https://www.digikey.com/product-detail/en/nichicon/UPW2W010MPD1TD/493-11823-1-ND/4320132; Tolerance: 20%; Voltage: 450V; Price: 0.52; Device Package: Radial, Can, 10mm
footprint CAP AL TH D10 L5 H14.5
pins: 1, 2

## UPW2W100MHD
designator C?, comment 10uF  (value not drawn)
CAP ALUM 10UF 20% 450V RADIAL; Part Number: UPW2W100MHD; Manufacturer: Nichicon; TemperatureRange: -25C ~ 105C; Type: Polar; Ripple Current: 75mA @ 120Hz; Value: 10uF; PartId: 26552; Supplier 1: Digi-Key; Supplier Part Number 1: 493-2069-ND; ComponentLink1Description: Datasheet; ComponentLink1URL: http://nichicon-us.com/english/products/pdfs/e-upw.pdf; ComponentLink2Description: Digi-Key Listing; ComponentLink2URL: https://www.digikey.com/product-detail/en/nichicon/UPW2W100MHD/493-2069-ND/589810; Tolerance: 20%; Voltage: 450V; Price: 1.06; Device Package: Radial, Can, 16mm
footprint CAP AL TH D16 L7.5 H26.5
pins: 1, 2

## UPX1A102MHD1TO
designator C?, comment 1000uF  (value not drawn)
CAP ALUM 1000UF 20% 10V RADIAL; Part Number: UPX1A102MHD1TO; Manufacturer: Nichicon; TemperatureRange: -55C ~ 105C; Type: Polar; Ripple Current: 756mA @ 120Hz; Value: 1000uF; PartId: 23669; Supplier 1: Digi-Key; Supplier Part Number 1: 493-12154-1-ND; ComponentLink1Description: Datasheet; ComponentLink1URL: http://nichicon-us.com/english/products/pdfs/e-upx.pdf; ComponentLink2Description: Digi-Key Listing; ComponentLink2URL: https://www.digikey.com/product-detail/en/nichicon/UPX1A102MHD1TO/493-12154-1-ND/4320137; Tolerance: 20%; Voltage: 10V; Price: 0.98; Device Package: Radial, Can, 12.5mm
footprint CAP AL TH D12.5 L5 H26.5
pins: 1, 2

## UPX1A222MHD
designator C?, comment 2200uF  (value not drawn)
CAP ALUM 2200UF 20% 10V RADIAL; Part Number: UPX1A222MHD; Manufacturer: Nichicon; TemperatureRange: -55C ~ 105C; Ripple Current: 1.68A; Value: 2200uF; PartId: 27035; Supplier 1: Digi-Key; Supplier Part Number 1: 493-11276-ND; ComponentLink1Description: Datasheet; ComponentLink1URL: http://nichicon-us.com/english/products/pdfs/e-upx.pdf; ComponentLink2Description: Digi-Key Listing; ComponentLink2URL: https://www.digikey.com/product-detail/en/nichicon/UPX1A222MHD/493-11276-ND/4319341; Tolerance: 20%; Voltage: 10V; Price: 1.52; Device Package: Radial, Can, 16mm
footprint CAP AL TH D16 L7.5 H33.5
pins: 1, 2

## UPX1C102MHD1TN
designator C?, comment 1000uF  (value not drawn)
CAP ALUM 1000UF 20% 16V RADIAL; Part Number: UPX1C102MHD1TN; Manufacturer: Nichicon; TemperatureRange: -55C ~ 105C; Type: Polar; Ripple Current: 1.008A @ 120Hz; Value: 1000uF; PartId: 26520; Supplier 1: Digi-Key; Supplier Part Number 1: 493-12279-3-ND; ComponentLink1Description: Datasheet; ComponentLink1URL: http://nichicon-us.com/english/products/pdfs/e-upx.pdf; ComponentLink2Description: Digi-Key Listing; ComponentLink2URL: https://www.digikey.com/product-detail/en/nichicon/UPX1C102MHD1TN/493-12279-3-ND/4321422; Tolerance: 20%; Voltage: 16V; Price: 0.6422; Device Package: Radial, Can, 16mm
footprint CAP AL TH D16 L7.5 H26.5
pins: 1, 2

## UPX1C331MPD1TD
designator C?, comment 330uF  (value not drawn)
CAP ALUM 330UF 20% 16V RADIAL; Part Number: UPX1C331MPD1TD; Manufacturer: Nichicon; TemperatureRange: -55C ~ 105C; Type: Polar; Ripple Current: 504mA @ 120Hz; Value: 330uF; PartId: 25476; Supplier 1: Digi-Key; Supplier Part Number 1: 493-12040-3-ND; ComponentLink1Description: Datasheet; ComponentLink1URL: http://nichicon-us.com/english/products/pdfs/e-upx.pdf; ComponentLink2Description: Digi-Key Listing; ComponentLink2URL: https://www.digikey.com/product-detail/en/nichicon/UPX1C331MPD1TD/493-12040-3-ND/4321183; Tolerance: 20%; Voltage: 16V; Price: 0.3072; Device Package: Radial, Can, 10mm
footprint CAP AL TH D10 L5 H22
pins: 1, 2

## UPX1C471MHD1TO
designator C?, comment 470uF  (value not drawn)
CAP ALUM 470UF 20% 16V RADIAL; Part Number: UPX1C471MHD1TO; Manufacturer: Nichicon; TemperatureRange: -55C ~ 105C; Type: Polar; Ripple Current: 756mA @ 120Hz; Value: 470uF; PartId: 22991; Supplier 1: Digi-Key; Supplier Part Number 1: 493-12088-1-ND; ComponentLink1Description: Datasheet; ComponentLink1URL: http://nichicon-us.com/english/products/pdfs/e-upx.pdf; ComponentLink2Description: Digi-Key Listing; ComponentLink2URL: https://www.digikey.com/product-detail/en/nichicon/UPX1C471MHD1TO/493-12088-1-ND/4320143; Tolerance: 20%; Voltage: 16V; Price: 0; Device Package: Radial, Can, 12.5mm
footprint CAP AL TH D12.5 L5 H21.5
pins: 1, 2

## UPX1E101MPD1TD
designator C?, comment 100uF  (value not drawn)
CAP ALUM 100UF 20% 25V RADIAL; Part Number: UPX1E101MPD1TD; Manufacturer: Nichicon; TemperatureRange: -55C ~ 105C; Type: Polar; Ripple Current: 315mA @ 120Hz; Value: 100uF; PartId: 24653; Supplier 1: Digi-Key; Supplier Part Number 1: 493-11989-3-ND; ComponentLink1Description: Datasheet; ComponentLink1URL: http://nichicon-us.com/english/products/pdfs/e-upx.pdf; ComponentLink2Description: Digi-Key Listing; ComponentLink2URL: https://www.digikey.com/product-detail/en/nichicon/UPX1E101MPD1TD/493-11989-3-ND/4321132; Tolerance: 20%; Voltage: 25V; Price: 0.2559; Device Package: Radial, Can, 10mm
footprint CAP AL TH D10 L5 H14.5
pins: 1, 2

## UPX1E102MHD
designator C?, comment 1000uF  (value not drawn)
CAP ALUM 1000UF 20% 25V RADIAL; Part Number: UPX1E102MHD; Manufacturer: Nichicon; TemperatureRange: -55C ~ 105C; Ripple Current: 1.68A; Value: 1000uF; PartId: 27081; Supplier 1: Digi-Key; Supplier Part Number 1: 493-11281-ND; ComponentLink1Description: Datasheet; ComponentLink1URL: http://nichicon-us.com/english/products/pdfs/e-upx.pdf; ComponentLink2Description: Digi-Key Listing; ComponentLink2URL: https://www.digikey.com/product-detail/en/nichicon/UPX1E102MHD/493-11281-ND/4319346; Tolerance: 20%; Voltage: 25V; Price: 1.68; Device Package: Radial, Can, 16mm
footprint CAP AL TH D16 L7.5 H33.5
pins: 1, 2

## UPX1E221MHD1TO
designator C?, comment 220uF  (value not drawn)
CAP ALUM 220UF 20% 25V RADIAL; Part Number: UPX1E221MHD1TO; Manufacturer: Nichicon; TemperatureRange: -55C ~ 105C; Type: Polar; Ripple Current: 630mA @ 120Hz; Value: 220uF; PartId: 22976; Supplier 1: Digi-Key; Supplier Part Number 1: 493-12075-1-ND; ComponentLink1Description: Datasheet; ComponentLink1URL: http://nichicon-us.com/english/products/pdfs/e-upx.pdf; ComponentLink2Description: Digi-Key Listing; ComponentLink2URL: https://www.digikey.com/product-detail/en/nichicon/UPX1E221MHD1TO/493-12075-1-ND/4320145; Tolerance: 20%; Voltage: 25V; Price: 0; Device Package: Radial, Can, 12.5mm
footprint CAP AL TH D12.5 L5 H21.5
pins: 1, 2

## UPX1E331MHD1TO
designator C?, comment 330uF  (value not drawn)
CAP ALUM 330UF 20% 25V RADIAL; Part Number: UPX1E331MHD1TO; Manufacturer: Nichicon; TemperatureRange: -55C ~ 105C; Type: Polar; Ripple Current: 756mA @ 120Hz; Value: 330uF; PartId: 23692; Supplier 1: Digi-Key; Supplier Part Number 1: 493-12138-1-ND; ComponentLink1Description: Datasheet; ComponentLink1URL: http://nichicon-us.com/english/products/pdfs/e-upx.pdf; ComponentLink2Description: Digi-Key Listing; ComponentLink2URL: https://www.digikey.com/product-detail/en/nichicon/UPX1E331MHD1TO/493-12138-1-ND/4320146; Tolerance: 20%; Voltage: 25V; Price: 1.05; Device Package: Radial, Can, 12.5mm
footprint CAP AL TH D12.5 L5 H26.5
pins: 1, 2

## UPX1E471MHD1TN
designator C?, comment 470uF  (value not drawn)
CAP ALUM 470UF 20% 25V RADIAL; Part Number: UPX1E471MHD1TN; Manufacturer: Nichicon; TemperatureRange: -55C ~ 105C; Type: Polar; Ripple Current: 1.008A @ 120Hz; Value: 470uF; PartId: 26523; Supplier 1: Digi-Key; Supplier Part Number 1: 493-12289-3-ND; ComponentLink1Description: Datasheet; ComponentLink1URL: http://nichicon-us.com/english/products/pdfs/e-upx.pdf; ComponentLink2Description: Digi-Key Listing; ComponentLink2URL: https://www.digikey.com/product-detail/en/nichicon/UPX1E471MHD1TN/493-12289-3-ND/4321432; Tolerance: 20%; Voltage: 25V; Price: 0.6696; Device Package: Radial, Can, 16mm
footprint CAP AL TH D16 L7.5 H26.5
pins: 1, 2

## UPX1V100MPD1TD
designator C?, comment 10uF  (value not drawn)
CAP ALUM 10UF 20% 35V RADIAL; Part Number: UPX1V100MPD1TD; Manufacturer: Nichicon; TemperatureRange: -55C ~ 105C; Type: Polar; Ripple Current: 220.5mA @ 120Hz; Value: 10uF; PartId: 24611; Supplier 1: Digi-Key; Supplier Part Number 1: 493-11907-3-ND; ComponentLink1Description: Datasheet; ComponentLink1URL: http://nichicon-us.com/english/products/pdfs/e-upx.pdf; ComponentLink2Description: Digi-Key Listing; ComponentLink2URL: https://www.digikey.com/product-detail/en/nichicon/UPX1V100MPD1TD/493-11907-3-ND/4321050; Tolerance: 20%; Voltage: 35V; Price: 0.1964; Device Package: Radial, Can, 10mm
footprint CAP AL TH D10 L5 H14.5
pins: 1, 2

## UPX1V101MPD1TD
designator C?, comment 100uF  (value not drawn)
CAP ALUM 100UF 20% 35V RADIAL; Part Number: UPX1V101MPD1TD; Manufacturer: Nichicon; TemperatureRange: -55C ~ 105C; Type: Polar; Ripple Current: 504mA @ 120Hz; Value: 100uF; PartId: 25470; Supplier 1: Digi-Key; Supplier Part Number 1: 493-12016-3-ND; ComponentLink1Description: Datasheet; ComponentLink1URL: http://nichicon-us.com/english/products/pdfs/e-upx.pdf; ComponentLink2Description: Digi-Key Listing; ComponentLink2URL: https://www.digikey.com/product-detail/en/nichicon/UPX1V101MPD1TD/493-12016-3-ND/4321159; Tolerance: 20%; Voltage: 35V; Price: 0.2872; Device Package: Radial, Can, 10mm
footprint CAP AL TH D10 L5 H22
pins: 1, 2

## UPX1V220MPD1TD
designator C?, comment 22uF  (value not drawn)
CAP ALUM 22UF 20% 35V RADIAL; Part Number: UPX1V220MPD1TD; Manufacturer: Nichicon; TemperatureRange: -55C ~ 105C; Type: Polar; Ripple Current: 252mA @ 120Hz; Value: 22uF; PartId: 24608; Supplier 1: Digi-Key; Supplier Part Number 1: 493-11889-3-ND; ComponentLink1Description: Datasheet; ComponentLink1URL: http://nichicon-us.com/english/products/pdfs/e-upx.pdf; ComponentLink2Description: Digi-Key Listing; ComponentLink2URL: https://www.digikey.com/product-detail/en/nichicon/UPX1V220MPD1TD/493-11889-3-ND/4321032; Tolerance: 20%; Voltage: 35V; Price: 0.1868; Device Package: Radial, Can, 10mm
footprint CAP AL TH D10 L5 H14.5
pins: 1, 2

## UPX1V221MHD1TO
designator C?, comment 220uF  (value not drawn)
CAP ALUM 220UF 20% 35V RADIAL; Part Number: UPX1V221MHD1TO; Manufacturer: Nichicon; TemperatureRange: -55C ~ 105C; Type: Polar; Ripple Current: 756mA @ 120Hz; Value: 220uF; PartId: 23630; Supplier 1: Digi-Key; Supplier Part Number 1: 493-12190-3-ND; ComponentLink1Description: Datasheet; ComponentLink1URL: http://nichicon-us.com/english/products/pdfs/e-upx.pdf; ComponentLink2Description: Digi-Key Listing; ComponentLink2URL: https://www.digikey.com/product-detail/en/nichicon/UPX1V221MHD1TO/493-12190-3-ND/4321333; Tolerance: 20%; Voltage: 35V; Price: 0.4353; Device Package: Radial, Can, 12.5mm
footprint CAP AL TH D12.5 L5 H26.5
pins: 1, 2

## UPX1V470MPD1TD
designator C?, comment 47uF  (value not drawn)
CAP ALUM 47UF 20% 35V RADIAL; Part Number: UPX1V470MPD1TD; Manufacturer: Nichicon; TemperatureRange: -55C ~ 105C; Type: Polar; Ripple Current: 315mA @ 120Hz; Value: 47uF; PartId: 24622; Supplier 1: Digi-Key; Supplier Part Number 1: 493-11928-3-ND; ComponentLink1Description: Datasheet; ComponentLink1URL: http://nichicon-us.com/english/products/pdfs/e-upx.pdf; ComponentLink2Description: Digi-Key Listing; ComponentLink2URL: https://www.digikey.com/product-detail/en/nichicon/UPX1V470MPD1TD/493-11928-3-ND/4321071; Tolerance: 20%; Voltage: 35V; Price: 0.2068; Device Package: Radial, Can, 10mm
footprint CAP AL TH D10 L5 H14.5
pins: 1, 2

## UPX1V471MHD
designator C?, comment 470uF  (value not drawn)
CAP ALUM 470UF 20% 35V RADIAL; Part Number: UPX1V471MHD; Manufacturer: Nichicon; TemperatureRange: -55C ~ 105C; Ripple Current: 1.68A; Value: 470uF; PartId: 27053; Supplier 1: Digi-Key; Supplier Part Number 1: 493-11277-ND; ComponentLink1Description: Datasheet; ComponentLink1URL: http://nichicon-us.com/english/products/pdfs/e-upx.pdf; ComponentLink2Description: Digi-Key Listing; ComponentLink2URL: https://www.digikey.com/product-detail/en/nichicon/UPX1V471MHD/493-11277-ND/4319342; Tolerance: 20%; Voltage: 35V; Price: 1.57; Device Package: Radial, Can, 16mm
footprint CAP AL TH D16 L7.5 H33.5
pins: 1, 2

## UPZ2D151MHD
designator C?, comment 150uF  (value not drawn)
CAP ALUM 150UF 20% 200V RADIAL; Part Number: UPZ2D151MHD; Manufacturer: Nichicon; TemperatureRange: -25C ~ 105C; Ripple Current: 620mA; Value: 150uF; PartId: 24368; Supplier 1: Digi-Key; Supplier Part Number 1: 493-11278-ND; ComponentLink1Description: Datasheet; ComponentLink1URL: http://nichicon-us.com/english/products/pdfs/e-upz.pdf; ComponentLink2Description: Digi-Key Listing; ComponentLink2URL: https://www.digikey.com/product-detail/en/nichicon/UPZ2D151MHD/493-11278-ND/4319343; Tolerance: 20%; Voltage: 200V; Price: 1.57; Device Package: Radial, Can, 12.5mm
footprint CAP AL TH D12.5 L5 H35.5
pins: 1, 2

## UPZ2D271MHD
designator C?, comment 270uF  (value not drawn)
CAP ALUM 270UF 20% 200V RADIAL; Part Number: UPZ2D271MHD; Manufacturer: Nichicon; TemperatureRange: -25C ~ 105C; Type: Polar; Ripple Current: 870mA @ 120Hz; Value: 270uF; PartId: 27212; Supplier 1: Digi-Key; Supplier Part Number 1: 493-4733-ND; ComponentLink1Description: Datasheet; ComponentLink1URL: http://nichicon-us.com/english/products/pdfs/e-upz.pdf; ComponentLink2Description: Digi-Key Listing; ComponentLink2URL: https://www.digikey.com/product-detail/en/nichicon/UPZ2D271MHD/493-4733-ND/3125536; Tolerance: 20%; Voltage: 200V; Price: 2.28; Device Package: Radial, Can, 16mm
footprint CAP AL TH D16 L7.5 H33.5
pins: 1, 2

## UPZ2G101MHD
designator C?, comment 100uF  (value not drawn)
CAP ALUM 100UF 20% 400V RADIAL; Part Number: UPZ2G101MHD; Manufacturer: Nichicon; TemperatureRange: -25C ~ 105C; Ripple Current: 580mA; Value: 100uF; PartId: 27229; Supplier 1: Digi-Key; Supplier Part Number 1: 493-11293-ND; ComponentLink1Description: Datasheet; ComponentLink1URL: http://nichicon-us.com/english/products/pdfs/e-upz.pdf; ComponentLink2Description: Digi-Key Listing; ComponentLink2URL: https://www.digikey.com/product-detail/en/nichicon/UPZ2G101MHD/493-11293-ND/4319358; Tolerance: 20%; Voltage: 400V; Price: 2.43; Device Package: Radial, Can, 16mm
footprint CAP AL TH D16 L7.5 H33.5
pins: 1, 2

## UPZ2G470MHD
designator C?, comment 47uF  (value not drawn)
CAP ALUM 47UF 20% 400V RADIAL; Part Number: UPZ2G470MHD; Manufacturer: Nichicon; TemperatureRange: -25C ~ 105C; Ripple Current: 370mA; Value: 47uF; PartId: 24373; Supplier 1: Digi-Key; Supplier Part Number 1: 493-11280-ND; ComponentLink1Description: Datasheet; ComponentLink1URL: http://nichicon-us.com/english/products/pdfs/e-upz.pdf; ComponentLink2Description: Digi-Key Listing; ComponentLink2URL: https://www.digikey.com/product-detail/en/nichicon/UPZ2G470MHD/493-11280-ND/4319345; Tolerance: 20%; Voltage: 400V; Price: 1.62; Device Package: Radial, Can, 12.5mm
footprint CAP AL TH D12.5 L5 H35.5
pins: 1, 2

## UPZ2W101MHD
designator C?, comment 100uF  (value not drawn)
CAP ALUM 100UF 20% 450V RADIAL; Part Number: UPZ2W101MHD; Manufacturer: Nichicon; TemperatureRange: -25C ~ 105C; Ripple Current: 650mA; Value: 100uF; PartId: 27298; Supplier 1: Digi-Key; Supplier Part Number 1: 493-11302-ND; ComponentLink1Description: Datasheet; ComponentLink1URL: http://nichicon-us.com/english/products/pdfs/e-upz.pdf; ComponentLink2Description: Digi-Key Listing; ComponentLink2URL: https://www.digikey.com/product-detail/en/nichicon/UPZ2W101MHD/493-11302-ND/4319367; Tolerance: 20%; Voltage: 450V; Price: 3.37; Device Package: Radial, Can, 16mm
footprint CAP AL TH D16 L7.5 H33.5
pins: 1, 2